# Altium schematic symbol library Test_Bench_Lib.SchLib: 16 symbols
Pins are listed as number, name and electrical type; pins without a type are passive.

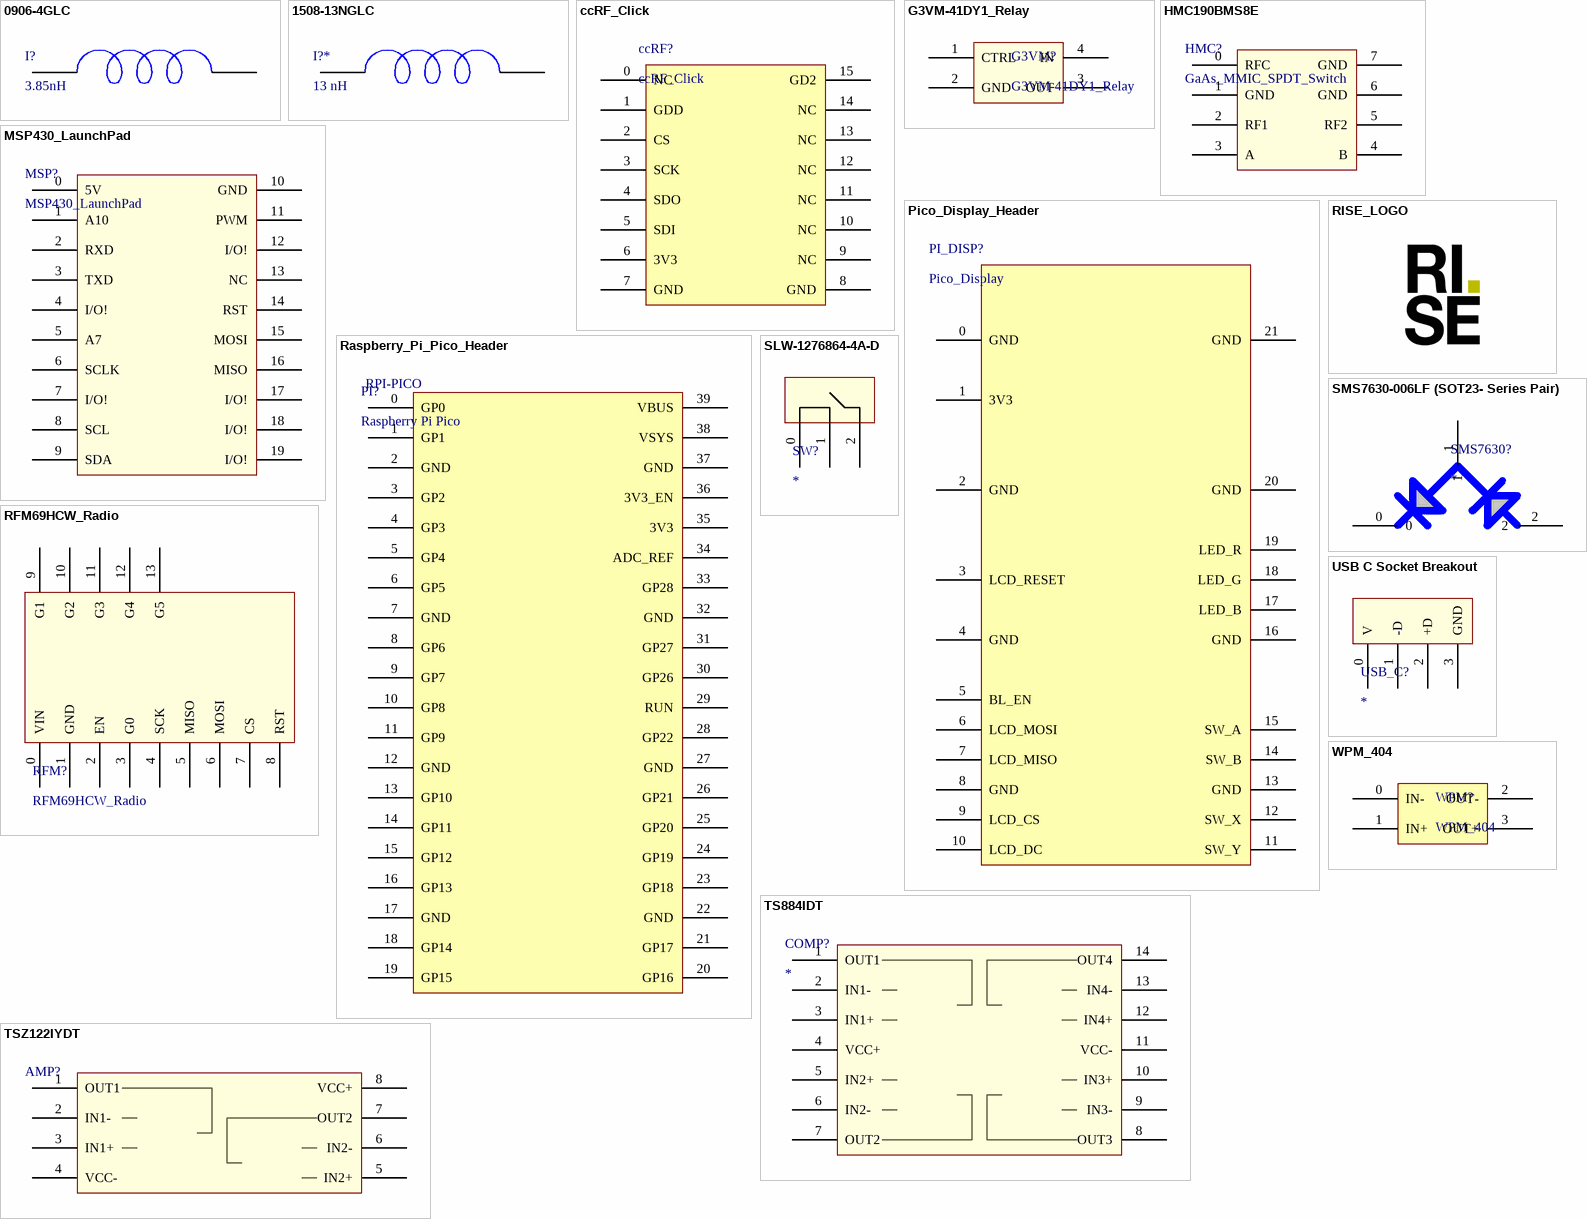
[diagram p0: symbols 0906-4GLC to WPM_404]

## 0906-4GLC
designator I?, comment 3.85nH
RF Inductors - SMD 3.85nH Unshld 5% 1.6A 6mOhms
footprint 0906-4GLC (RF Inductors - SMD 3.85nH Unshld 5% 1.6A 6mOhms)
pins: 0, 1

## 1508-13NGLC
designator I?*, comment 13 nH
RF Inductors - SMD 13nH Unshld 2% 4A 3.9mOhms AECQ2
footprint 1508-13NGLC (RF Inductors - SMD 13nH Unshld 2% 4A 3.9mOhms AECQ2)
pins: 0, 1

## ccRF_Click
designator ccRF?
ccRF_Click 2480MHz radio
footprint ccRF_Click (ccRF_Click 2480MHz radio)
footprint CCRF_CLICK_SMD
pins: 0 NC, 1 GDD, 2 CS, 3 SCK, 4 SDO, 5 SDI, 6 3V3, 7 GND, 8 GND, 9 NC, 10 NC, 11 NC, 12 NC, 13 NC, 14 NC, 15 GD2

## G3VM-41DY1_Relay
designator G3VM?
MOS FET Relays Small DIP4 package with High dielectric strength type
footprint G3VM-41DY1_Relay (MOS FET Relays Small DIP4 package with High dielectric strength type)
pins: 1 CTRL, 2 GND, 3 OUT, 4 IN

## HMC190BMS8E
designator HMC?, comment GaAs_MMIC_SPDT_Switch
footprint HMC190BMS8E (GaAs MMIC SPDT SWITCH  DC - 3 GHz)
pins: 0 RFC, 1 GND, 2 RF1, 3 A, 4 B, 5 RF2, 6 GND, 7 GND

## MSP430_LaunchPad
designator MSP?
MSP430™ LaunchPad™ development kit for value line MCU
footprint MSP430_LaunchPad (MSP430™ LaunchPad™ development kit for value line MCU)
pins: 0 5V, 1 A10, 2 RXD, 3 TXD, 4 I/O!, 5 A7, 6 SCLK, 7 I/O!, 8 SCL, 9 SDA, 10 GND, 11 PWM, 12 I/O!, 13 NC, 14 RST, 15 MOSI, 16 MISO, 17 I/O!, 18 I/O!, 19 I/O!

## Pico_Display_Header
designator PI_DISP?, comment Pico_Display
footprint Pico_Display_Header
footprint Pico_Display_Header_SMD
pins: 0 GND, 1 3V3, 2 GND, 3 LCD_RESET, 4 GND, 5 BL_EN, 6 LCD_MOSI, 7 LCD_MISO, 8 GND, 9 LCD_CS, 10 LCD_DC, 11 SW_Y, 12 SW_X, 13 GND, 14 SW_B, 15 SW_A, 16 GND, 17 LED_B, 18 LED_G, 19 LED_R, 20 GND, 21 GND

## Raspberry_Pi_Pico_Header
designator PI?, comment Raspberry Pi Pico  Supplier Part Number 1: RPI-PICO
Supplier 1: TME
footprint Raspberry Pi Pico
pins: 0 GP0, 1 GP1, 2 GND, 3 GP2, 4 GP3, 5 GP4, 6 GP5, 7 GND, 8 GP6, 9 GP7, 10 GP8, 11 GP9, 12 GND, 13 GP10, 14 GP11, 15 GP12, 16 GP13, 17 GND, 18 GP14, 19 GP15, 20 GP16, 21 GP17, 22 GND, 23 GP18, 24 GP19, 25 GP20, 26 GP21, 27 GND, 28 GP22, 29 RUN, 30 GP26, 31 GP27, 32 GND, 33 GP28, 34 ADC_REF, 35 3V3, 36 3V3_EN, 37 GND, 38 VSYS, 39 VBUS

## RFM69HCW_Radio
designator RFM?
Adafruit RFM69HCW Transceiver Radio Breakout - 433 MHz - RadioFruit
footprint RFM69HCW_Radio (Adafruit RFM69HCW Transceiver Radio Breakout - 433 MHz - RadioFruit)
pins: 0 VIN, 1 GND, 2 EN, 3 G0, 4 SCK, 5 MISO, 6 MOSI, 7 CS, 8 RST, 9 G1, 10 G2, 11 G3, 12 G4, 13 G5

## RISE_LOGO
designator *  (value not drawn)
RISE_Logo
footprint RISE_Logo

## SLW-1276864-4A-D
designator SW?
SLIDE SWITCH
footprint SLW-1276864-4A-D (SLIDE SWITCH)
pins: 0, 1, 2

## SMS7630-006LF (SOT23- Series Pair)
designator SMS7630?
footprint SMS7630-006LF (SOT23- Series Pair)
pins: 0, 1, 2

## TS884IDT
designator COMP?
Analog Comparators Rail2Rail 1.1 Vquad nanopwr comparators
footprint TS884IDT (Analog Comparators Rail2Rail 1.1 Vquad nanopwr comparators)
pins: 1 OUT1, 2 IN1-, 3 IN1+, 4 VCC+, 5 IN2+, 6 IN2-, 7 OUT2, 8 OUT3, 9 IN3-, 10 IN3+, 11 VCC-, 12 IN4+, 13 IN4-, 14 OUT4

## TSZ122IYDT
designator AMP?  (value not drawn)
Precision Amplifiers Very high accuracy (5 uV) zero drift 5 V CMOS Op-Amps, dual, GBP=400kHz
footprint TSZ122IYDT (Precision Amplifiers Very high accuracy (5 uV) zero drift 5 V CMOS Op-Amps, dual, GBP=400kHz)
pins: 1 OUT1, 2 IN1-, 3 IN1+, 4 VCC-, 5 IN2+, 6 IN2-, 7 OUT2, 8 VCC+

## USB C Socket Breakout
designator USB_C?
Simple USB C Socket Breakout
footprint Simple_USB_C_Socket_Breakout (Simple USB C Socket Breakout)
pins: 0 V, 1 -D, 2 +D, 3 GND

## WPM_404
designator WPM?
Velleman WPM404 Whadda DC-DC Adjustable Voltage Step-Down Module LM2596S
footprint WPM_404 (Velleman WPM404 Whadda DC-DC Adjustable Voltage Step-Down Module LM2596S)
footprint WPM404_SMD
pins: 0 IN-, 1 IN+, 2 OUT-, 3 OUT+